# EAGLE library part LIS3DE_ISL9238 (library pendulum_control_board)
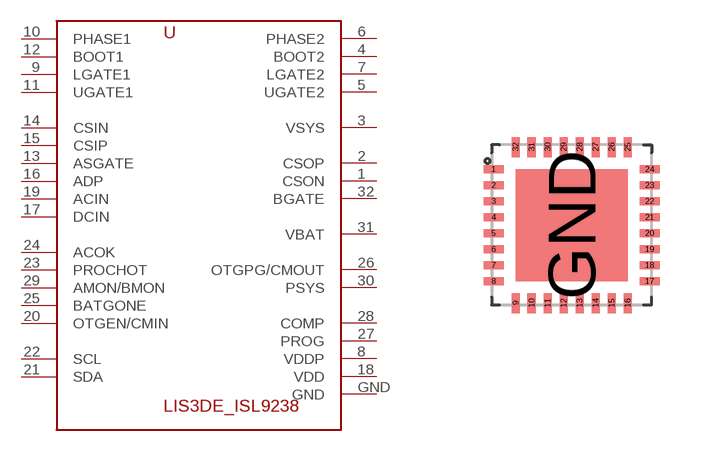
[diagram p2: symbol with the pads of LIS3DE_TQFN-32; footprint LIS3DE_TQFN-32]

Designator prefix -

## LIS3DE_ISL9238  [LIS3DE_TQFN-32]
1  CSON
2  CSOP
3  VSYS
4  BOOT2
5  UGATE2
6  PHASE2
7  LGATE2
8  VDDP
9  LGATE1
10  PHASE1
11  UGATE1
12  BOOT1
13  ASGATE
14  CSIN
15  CSIP
16  ADP
17  DCIN
18  VDD
19  ACIN
20  OTGEN/CMIN
21  SDA
22  SCL
23  PROCHOT
24  ACOK
25  BATGONE
26  OTGPG/CMOUT
27  PROG
28  COMP
29  AMON/BMON
30  PSYS
31  VBAT
32  BGATE
GND  GND

## Footprint LIS3DE_TQFN-32 (pad centres in mm)
smd 0.5 x 0.2: 1 -1.85,0.75; 2 -1.85,0.35; 3 -1.85,-0.05; 4 -1.85,-0.45; 5 -1.85,-0.85; 6 -1.85,-1.25; 7 -1.85,-1.65; 8 -1.85,-2.05; 17 2.05,-2.05; 18 2.05,-1.65; 19 2.05,-1.25; 20 2.05,-0.85; 21 2.05,-0.45; 22 2.05,-0.05; 23 2.05,0.35; 24 2.05,0.75
smd 0.2 x 0.5: 9 -1.3,-2.6; 10 -0.9,-2.6; 11 -0.5,-2.6; 12 -0.1,-2.6; 13 0.3,-2.6; 14 0.7,-2.6; 15 1.1,-2.6; 16 1.5,-2.6; 25 1.5,1.3; 26 1.1,1.3; 27 0.7,1.3; 28 0.3,1.3; 29 -0.1,1.3; 30 -0.5,1.3; 31 -0.9,1.3; 32 -1.3,1.3
smd 2.8 x 2.8: GND 0.1,-0.65